# Altium schematic symbol library 1N5404.SchLib: 1 symbol
Pins are listed as number, name and electrical type; pins without a type are passive.

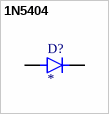
[diagram p0: symbol 1N5404]

## 1N5404
designator D?
Diode Standard 400 V 3A Through Hole DO-201AD; MF: ON Semiconductor; MP: 1N5404; Purchase-URL: https://pricing.snapeda.com/search/part/1N5404/?ref=eda; Price: None; Check_prices: https://www.snapeda.com/parts/1N5404/Onsemi/view-part/?ref=eda; Value: *; Package: AXIAL LEAD-2 ON Semiconductor; SnapEDA_Link: https://www.snapeda.com/parts/1N5404/Onsemi/view-part/?ref=snap; Availability: In Stock
footprint DIOAD1990W125L900D530
pins: A, C K